# Altium footprint library FU_Telelink_fuse.PcbLib: 1 footprints
Each footprint in its own frame and in the unit in brackets; x right, y up, seen from the top. Pads: shape width x height; smd on the part's side, far side on the other; paste and mask are expansions set on the pad; w line width, h text height; cw(c..) or ccw(c..) is an arc to the next point about the centre after c.
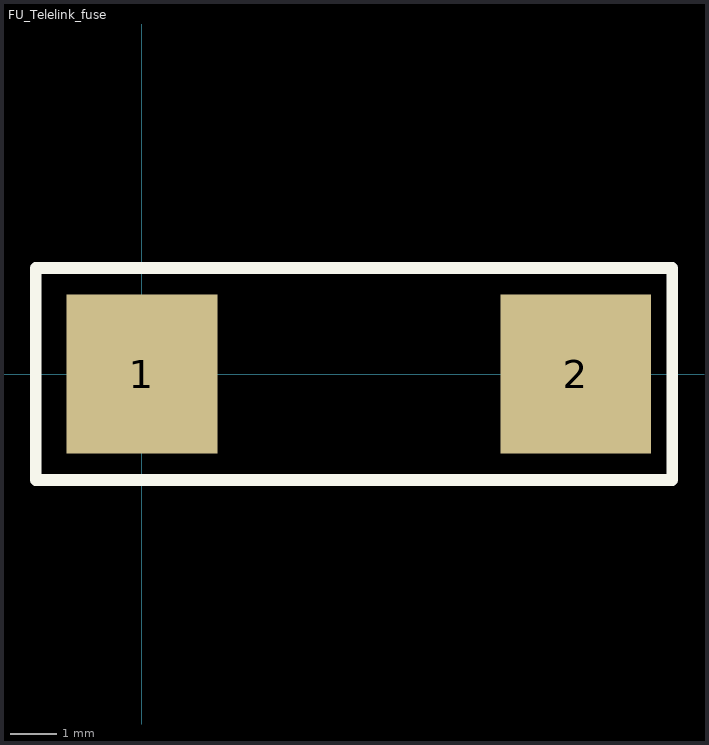
[diagram p0: the footprint, top view; thin cyan lines are the x and y axes]

## FU_Telelink_fuse [mm] "Littelfuse telecom fuse: 04611.25ER"
pads (2):
  rect 3.25x3.43 smd: 1(0,0) 2(9.35,0)
Top Overlay:
  lines w0.254: -2.286,-2.286 11.43,-2.286 11.43,2.286 -2.286,2.286 -2.286,-2.286